# Altium footprint library TNPW02014K99BEED.PcbLib: 3 footprints
Each footprint in its own frame and in the unit in brackets; x right, y up, seen from the top. Pads: shape width x height; smd on the part's side, far side on the other; paste and mask are expansions set on the pad; w line width, h text height; cw(c..) or ccw(c..) is an arc to the next point about the centre after c.
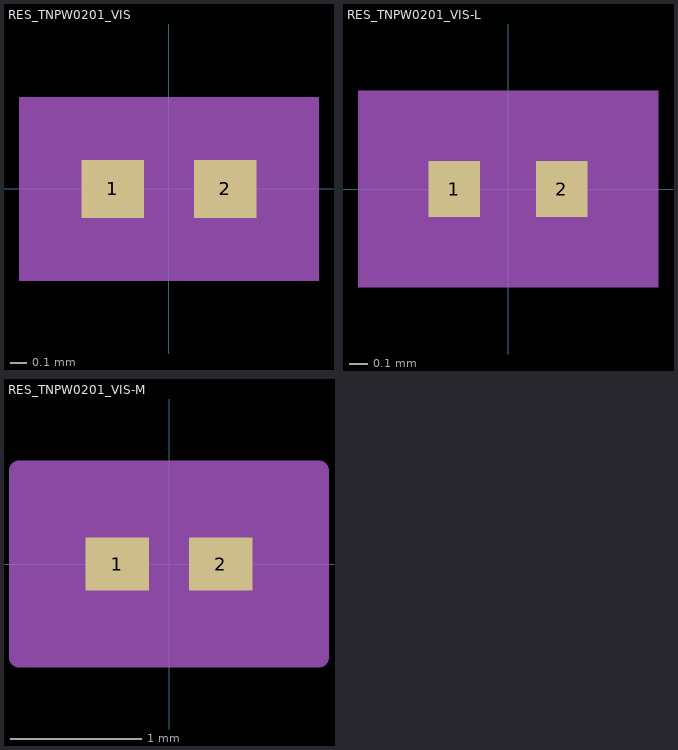
[diagram p0: the footprints below, top view; thin cyan lines are the x and y axes]

## RES_TNPW0201_VIS [mil]
pads (2):
  rect 15x14 smd paste+0 mask+0: 1(-13.5,0) 2(13.5,0)
Mechanical 5:
  region: 36,-22 -36,-22 -36,22 36,22
Mechanical 13:
  lines w1: -13,-7 -13,7 ; -13,-7 13,-7 ; -13,-7 -6,-7 -6,7 -13,7 ; -13,-7 -13,7 ; -13,7 13,7 ; 13,-7 13,7 ; 13,-7 13,7 ; 13,-7 6,-7 6,7 13,7
Mechanical 15:
  region: 31,-17 -31,-17 -31,17 31,17
  lines w6: -31,-17 31,-17 31,17 -31,17 -31,-17
3D body "RES_TNPW0201_VIS.step": height 10, standoff 0, extent -12.99,-7.01 12.99,7.01

## RES_TNPW0201_VIS-L [mil]
pads (2):
  rect 11x12 smd paste+0 mask+0: 1(-11.5,0) 2(11.5,0)
Mechanical 5:
  region: 32,-21 -32,-21 -32,21 32,21
Mechanical 13:
  lines w1: -13,-7 -13,7 ; -13,-7 -6,-7 -6,7 -13,7 ; -13,-7 13,-7 ; -13,-7 -13,7 ; -13,7 13,7 ; 13,-7 6,-7 6,7 13,7 ; 13,-7 13,7 ; 13,-7 13,7
Mechanical 15:
  region: 21,-10 -21,-10 -21,10 21,10
  lines w6: -21,-10 -21,10 21,10 21,-10 -21,-10
3D body "RES_TNPW0201_VIS.step": height 10, standoff 0, extent -12.99,-7.01 12.99,7.01

## RES_TNPW0201_VIS-M [mil]
pads (2):
  rect 19x16 smd paste+0 mask+0: 1(-15.5,0) 2(15.5,0)
Mechanical 5:
  region: 40,-23 -40,-23 -40,23 40,23
Mechanical 13:
  lines w1: -13,-7 -13,7 ; -13,-7 -6,-7 -6,7 -13,7 ; -13,-7 13,-7 ; -13,-7 -13,7 ; -13,7 13,7 ; 13,-7 6,-7 6,7 13,7 ; 13,-7 13,7 ; 13,-7 13,7
Mechanical 15:
  region: 45,-28 -45,-28 -45,28 45,28
  lines w6: -45,-28 -45,28 45,28 45,-28 -45,-28
3D body "RES_TNPW0201_VIS.step": height 10, standoff 0, extent -12.99,-7.01 12.99,7.01